# Altium integrated library TI_Logic_Little_Logic.IntLib: 1164 symbols (part 2 of 35)
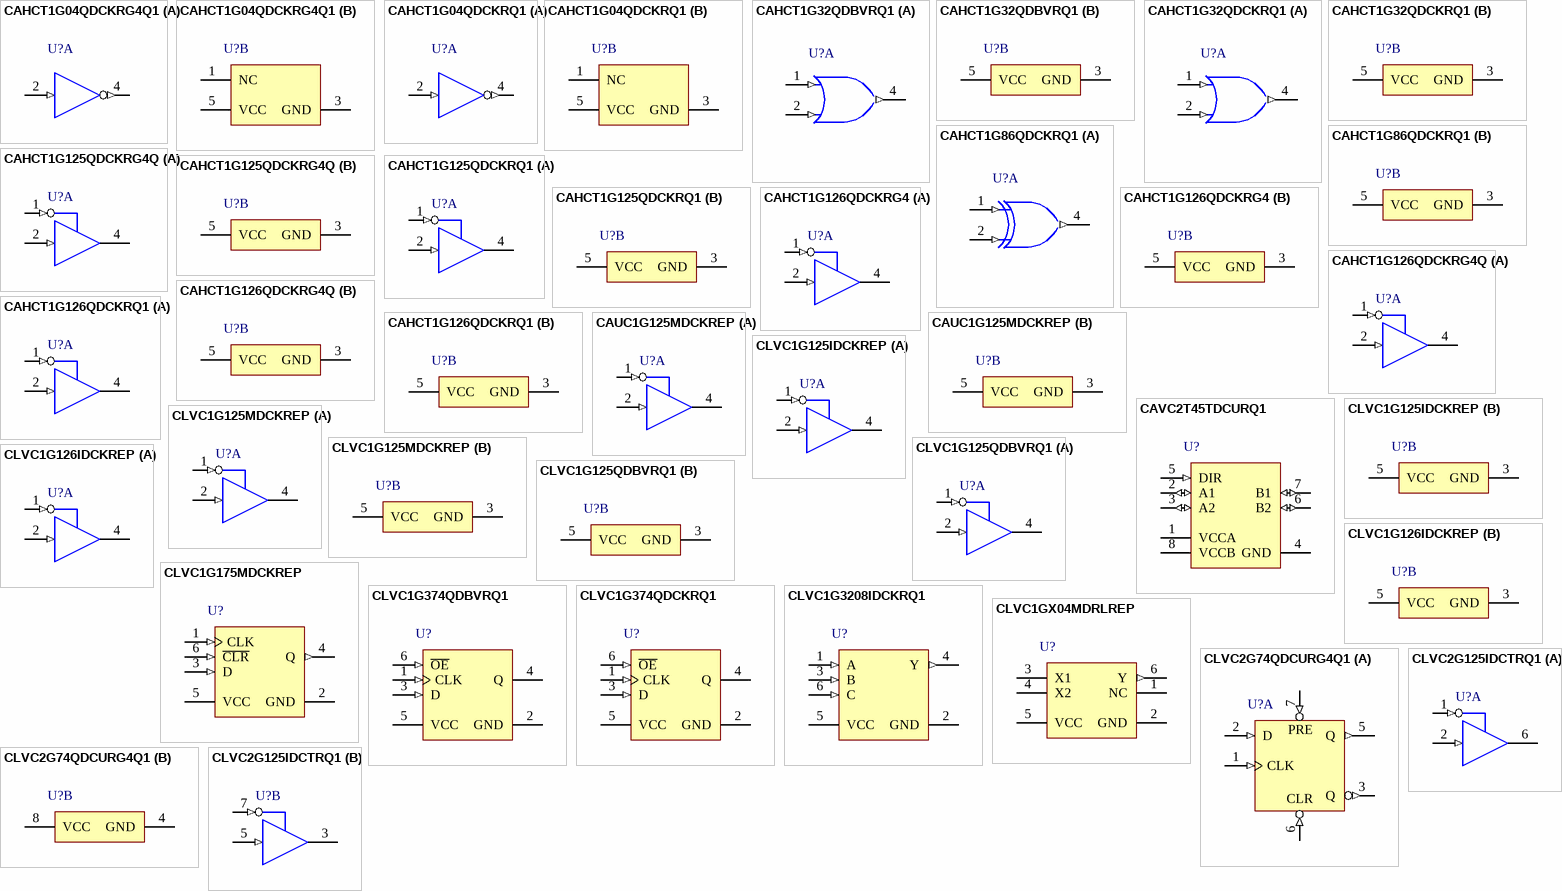
[diagram p61: symbols CAHCT1G04QDCKRG4Q1 to CLVC2G125IDCTRQ1]

## CLVC1G125IDCKREP
designator U?
Enhanced Product Single Bus Buffer Gate With 3-State Outputs, DCK0005A, LARGE T&R; Generic Part Number: SN74LVC1G125-EP; Manufacturer: Texas Instruments; PartNumber: CLVC1G125IDCKREP; VCC(Min)(V): 1.65; VCC(Max)(V): 5.5; Output Type: CMOS; ICC @ Nom Voltage(Max)(mA): 0.01; Input Type: CMOS/TTL; Bits(#): 1; F @ Nom Voltage(Max)(Mhz): 150; Rating: HiRel Enhanced Product; Technology Family: LVC; Voltage(Nom)(V): 1.8,2.5,3.3,5; Schmitt Trigger: No; Output Drive (IOL/IOH)(Max)(mA): 32/-32; tpd @ Nom Voltage(Max)(ns): 9,5.5,4.5,4; Logic: True; Sub-Family: Non-Inverting Buffer/Driver; 3-State Output: Yes; DatasheetVersion: SCES455B; PackageReference: DCK0005A; Supplier 1: Mouser; Supplier Part Number 1: 595-CLVC1G125IDCKREP; Supplier 2: Digi-Key; Supplier Part Number 2: 296-19721-2-ND; Supplier 3: Digi-Key; Supplier Part Number 3: 296-19721-1-ND; Supplier 4: Digi-Key; Supplier Part Number 4: 296-19721-6-ND; Operating Temperature Range(C): -40 to 85,-55 to 125; ComponentLink1Description: Manufacturer URL; ComponentLink1URL: http://www.ti.com/; ComponentLink2Description: Datasheet; ComponentLink2URL: http://www.ti.com/lit/ds/symlink/sn74lvc1g125-ep.pdf
footprint DCK0005A_N (SOT23, 5-Leads, Body 2.15x1.4mm, Pitch 0.65mm, IPC Medium Density)
footprint DCK0005A_M (SOT23, 5-Leads, Body 2.15x1.4mm, Pitch 0.65mm, IPC Low Density)
footprint DCK0005A_L (SOT23, 5-Leads, Body 2.15x1.4mm, Pitch 0.65mm, IPC High Density)
part A pins: 1 ~{OE} (in), 2 A (in), 4 Y (hiz)
part B pins: 3 GND (power), 5 VCC (power)

## CLVC1G125MDCKREP
designator U?
Enhanced Product Single Bus Buffer Gate With 3-State Outputs, DCK0005A, LARGE T&R; Generic Part Number: SN74LVC1G125-EP; Manufacturer: Texas Instruments; PartNumber: CLVC1G125MDCKREP; VCC(Min)(V): 1.65; VCC(Max)(V): 5.5; Output Type: CMOS; ICC @ Nom Voltage(Max)(mA): 0.01; Input Type: CMOS/TTL; Bits(#): 1; F @ Nom Voltage(Max)(Mhz): 150; Rating: HiRel Enhanced Product; Technology Family: LVC; Voltage(Nom)(V): 1.8,2.5,3.3,5; Schmitt Trigger: No; Output Drive (IOL/IOH)(Max)(mA): 32/-32; tpd @ Nom Voltage(Max)(ns): 9,5.5,4.5,4; Logic: True; Sub-Family: Non-Inverting Buffer/Driver; 3-State Output: Yes; DatasheetVersion: SCES455B; PackageReference: DCK0005A; Supplier 1: Mouser; Supplier Part Number 1: 595-CLVC1G125MDCKREP; Supplier 2: Digi-Key; Supplier Part Number 2: 296-20744-2-ND; Supplier 3: Digi-Key; Supplier Part Number 3: 296-20744-1-ND; Supplier 4: Digi-Key; Supplier Part Number 4: 296-20744-6-ND; Operating Temperature Range(C): -40 to 85,-55 to 125; ComponentLink1Description: Manufacturer URL; ComponentLink1URL: http://www.ti.com/; ComponentLink2Description: Datasheet; ComponentLink2URL: http://www.ti.com/lit/ds/symlink/sn74lvc1g125-ep.pdf
footprint DCK0005A_N (SOT23, 5-Leads, Body 2.15x1.4mm, Pitch 0.65mm, IPC Medium Density)
footprint DCK0005A_M (SOT23, 5-Leads, Body 2.15x1.4mm, Pitch 0.65mm, IPC Low Density)
footprint DCK0005A_L (SOT23, 5-Leads, Body 2.15x1.4mm, Pitch 0.65mm, IPC High Density)
part A pins: 1 ~{OE} (in), 2 A (in), 4 Y (hiz)
part B pins: 3 GND (power), 5 VCC (power)

## CLVC1G125QDBVRQ1
designator U?
Automotive Catalog Single Bus Buffer Gate With 3-State Output, DBV0005A, LARGE T&R; Generic Part Number: SN74LVC1G125-Q1; Manufacturer: Texas Instruments; PartNumber: CLVC1G125QDBVRQ1; VCC(Min)(V): 1.65; VCC(Max)(V): 5.5; Output Type: CMOS; ICC @ Nom Voltage(Max)(mA): 0.01; Input Type: CMOS/TTL; Bits(#): 1; F @ Nom Voltage(Max)(Mhz): 150; Technology Family: LVC; Voltage(Nom)(V): 1.8,2.5,3.3,5; Schmitt Trigger: No; Output Drive (IOL/IOH)(Max)(mA): 32/-32; tpd @ Nom Voltage(Max)(ns): 5.1,4.1; Logic: True; Sub-Family: Non-Inverting Buffer/Driver; 3-State Output: Yes; DatasheetVersion: SGES002C; PackageReference: DBV0005A; Supplier 1: Mouser; Supplier Part Number 1: 595-CLVC1G125QDBVRQ1; Supplier 2: Digi-Key; Supplier Part Number 2: 296-23463-2-ND; Supplier 3: Digi-Key; Supplier Part Number 3: 296-23463-1-ND; Supplier 4: Digi-Key; Supplier Part Number 4: 296-23463-6-ND; Operating Temperature Range(C): -40 to 125; Rating: Automotive; ComponentLink1Description: Manufacturer URL; ComponentLink1URL: http://www.ti.com/; ComponentLink2Description: Datasheet; ComponentLink2URL: http://www.ti.com/lit/ds/symlink/sn74lvc1g125-q1.pdf
footprint DBV0005A_N (SOT23, 5-Leads, Body 3.05x1.75mm, Pitch 0.95mm, IPC Medium Density)
footprint DBV0005A_M (SOT23, 5-Leads, Body 3.05x1.75mm, Pitch 0.95mm, IPC Low Density)
footprint DBV0005A_L (SOT23, 5-Leads, Body 3.05x1.75mm, Pitch 0.95mm, IPC High Density)
part A pins: 1 ~{OE} (in), 2 A (in), 4 Y (hiz)
part B pins: 3 GND (power), 5 VCC (power)

## CLVC1G126IDCKREP
designator U?
Enhanced Product Single Bus Buffer Gate With 3-State Outputs, DCK0005A, LARGE T&R; Generic Part Number: SN74LVC1G126-EP; Manufacturer: Texas Instruments; PartNumber: CLVC1G126IDCKREP; VCC(Min)(V): 1.65; VCC(Max)(V): 5.5; Output Type: CMOS; ICC @ Nom Voltage(Max)(mA): 0.01; Input Type: CMOS/TTL; Bits(#): 1; F @ Nom Voltage(Max)(Mhz): 150; Rating: HiRel Enhanced Product; Technology Family: LVC; Voltage(Nom)(V): 1.8,2.5,3.3,5; Schmitt Trigger: No; Output Drive (IOL/IOH)(Max)(mA): 32/-32; tpd @ Nom Voltage(Max)(ns): 8,5.5,4.5,4; Logic: True; Sub-Family: Non-Inverting Buffer/Driver; 3-State Output: Yes; DatasheetVersion: SCES527A; PackageReference: DCK0005A; Supplier 1: Mouser; Supplier Part Number 1: 595-CLVC1G126IDCKREP; Supplier 2: Digi-Key; Supplier Part Number 2: 296-22110-2-ND; Supplier 3: Digi-Key; Supplier Part Number 3: 296-22110-1-ND; Supplier 4: Digi-Key; Supplier Part Number 4: 296-22110-6-ND; Operating Temperature Range(C): -40 to 85; ComponentLink1Description: Manufacturer URL; ComponentLink1URL: http://www.ti.com/; ComponentLink2Description: Datasheet; ComponentLink2URL: http://www.ti.com/lit/ds/symlink/sn74lvc1g126-ep.pdf
footprint DCK0005A_N (SOT23, 5-Leads, Body 2.15x1.4mm, Pitch 0.65mm, IPC Medium Density)
footprint DCK0005A_M (SOT23, 5-Leads, Body 2.15x1.4mm, Pitch 0.65mm, IPC Low Density)
footprint DCK0005A_L (SOT23, 5-Leads, Body 2.15x1.4mm, Pitch 0.65mm, IPC High Density)
part A pins: 1 OE (in), 2 A (in), 4 Y (hiz)
part B pins: 3 GND (power), 5 VCC (power)

## CLVC1G175MDCKREP
designator U?
Enhanced Product Single D-Type Flip-Flop With Asynchronous Clear, DCK0006A, LARGE T&R; Generic Part Number: SN74LVC1G175-EP; Manufacturer: Texas Instruments; PartNumber: CLVC1G175MDCKREP; VCC(Min)(V): 1.65; VCC(Max)(V): 5.5; Output Type: CMOS; ICC @ Nom Voltage(Max)(mA): 0.01; Input Type: CMOS/TTL; Bits(#): 1; F @ Nom Voltage(Max)(Mhz): 150; Rating: HiRel Enhanced Product; Technology Family: LVC; Voltage(Nom)(V): 1.8,2.5,3.3,5; Schmitt Trigger: No; Output Drive (IOL/IOH)(Max)(mA): 32/-32; tpd @ Nom Voltage(Max)(ns): 16,9,8,5; Logic: True; DatasheetVersion: SGLS366A; PackageReference: DCK0006A; Supplier 1: Mouser; Supplier Part Number 1: 595-CLVC1G175MDCKREP; Supplier 2: Digi-Key; Supplier Part Number 2: 296-22111-2-ND; Supplier 3: Digi-Key; Supplier Part Number 3: 296-22111-1-ND; Supplier 4: Digi-Key; Supplier Part Number 4: 296-22111-6-ND; Operating Temperature Range(C): -55 to 125; 3-State Output: No; Sub-Family: D-Type Flip-Flop; ComponentLink1Description: Manufacturer URL; ComponentLink1URL: http://www.ti.com/; ComponentLink2Description: Datasheet; ComponentLink2URL: http://www.ti.com/lit/ds/symlink/sn74lvc1g175-ep.pdf
footprint DCK0006A_N (SOT23, 6-Leads, Body 2.15x1.4mm, Pitch 0.65mm, IPC Medium Density)
footprint DCK0006A_M (SOT23, 6-Leads, Body 2.15x1.4mm, Pitch 0.65mm, IPC Low Density)
footprint DCK0006A_L (SOT23, 6-Leads, Body 2.15x1.4mm, Pitch 0.65mm, IPC High Density)
pins: 1 CLK (in), 2 GND (power), 3 D (in), 4 Q (out), 5 VCC (power), 6 ~{CLR} (in)

## CLVC1G374QDBVRQ1
designator U?
Automotive Catalog Single D-Type Flip-Flop with 3-State Output, DBV0006A, LARGE T&R; Generic Part Number: SN74LVC1G374-Q1; Manufacturer: Texas Instruments; PartNumber: CLVC1G374QDBVRQ1; VCC(Min)(V): 1.65; VCC(Max)(V): 5.5; Output Type: CMOS; ICC @ Nom Voltage(Max)(mA): 0.01; Input Type: CMOS/TTL; Bits(#): 1; F @ Nom Voltage(Max)(Mhz): 150; Technology Family: LVC; Voltage(Nom)(V): 1.8,2.5,3.3,5; Schmitt Trigger: No; Output Drive (IOL/IOH)(Max)(mA): 32/-32; 3-State Output: Yes; tpd @ Nom Voltage(Max)(ns): 18.3,10.2,7,5; Logic: True; DatasheetVersion: SCES607B; PackageReference: DBV0006A; Supplier 1: Mouser; Supplier Part Number 1: 595-CLVC1G374QDBVRQ1; Supplier 2: Digi-Key; Supplier Part Number 2: 296-29570-2-ND; Supplier 3: Digi-Key; Supplier Part Number 3: 296-29570-1-ND; Supplier 4: Digi-Key; Supplier Part Number 4: 296-29570-6-ND; Operating Temperature Range(C): -40 to 125; Rating: Automotive; Sub-Family: D-Type Flip-Flop; ComponentLink1Description: Manufacturer URL; ComponentLink1URL: http://www.ti.com/; ComponentLink2Description: Datasheet; ComponentLink2URL: http://www.ti.com/lit/ds/symlink/sn74lvc1g374-q1.pdf
footprint DBV0006A_N (SOT23, 6-Leads, Body 3.05x1.75mm, Pitch 0.95mm, IPC Medium Density)
footprint DBV0006A_M (SOT23, 6-Leads, Body 3.05x1.75mm, Pitch 0.95mm, IPC Low Density)
footprint DBV0006A_L (SOT23, 6-Leads, Body 3.05x1.75mm, Pitch 0.95mm, IPC High Density)
pins: 1 CLK (in), 2 GND (power), 3 D (in), 4 Q (hiz), 5 VCC (power), 6 ~{OE} (in)

## CLVC1G374QDCKRQ1
designator U?
Automotive Catalog Single D-Type Flip-Flop with 3-State Output, DCK0006A, LARGE T&R; Generic Part Number: SN74LVC1G374-Q1; Manufacturer: Texas Instruments; PartNumber: CLVC1G374QDCKRQ1; VCC(Min)(V): 1.65; VCC(Max)(V): 5.5; Output Type: CMOS; ICC @ Nom Voltage(Max)(mA): 0.01; Input Type: CMOS/TTL; Bits(#): 1; F @ Nom Voltage(Max)(Mhz): 150; Technology Family: LVC; Voltage(Nom)(V): 1.8,2.5,3.3,5; Schmitt Trigger: No; Output Drive (IOL/IOH)(Max)(mA): 32/-32; 3-State Output: Yes; tpd @ Nom Voltage(Max)(ns): 18.3,10.2,7,5; Logic: True; DatasheetVersion: SCES607B; PackageReference: DCK0006A; Supplier 1: Mouser; Supplier Part Number 1: 595-CLVC1G374QDCKRQ1; Supplier 2: Digi-Key; Supplier Part Number 2: 296-36925-2-ND; Supplier 3: Digi-Key; Supplier Part Number 3: 296-36925-1-ND; Supplier 4: Digi-Key; Supplier Part Number 4: 296-36925-6-ND; Operating Temperature Range(C): -40 to 125; Rating: Automotive; Sub-Family: D-Type Flip-Flop; ComponentLink1Description: Manufacturer URL; ComponentLink1URL: http://www.ti.com/; ComponentLink2Description: Datasheet; ComponentLink2URL: http://www.ti.com/lit/ds/symlink/sn74lvc1g374-q1.pdf
footprint DCK0006A_N (SOT23, 6-Leads, Body 2.15x1.4mm, Pitch 0.65mm, IPC Medium Density)
footprint DCK0006A_M (SOT23, 6-Leads, Body 2.15x1.4mm, Pitch 0.65mm, IPC Low Density)
footprint DCK0006A_L (SOT23, 6-Leads, Body 2.15x1.4mm, Pitch 0.65mm, IPC High Density)
pins: 1 CLK (in), 2 GND (power), 3 D (in), 4 Q (hiz), 5 VCC (power), 6 ~{OE} (in)

## CLVC1G3208IDCKRQ1
designator U?
Automotive Catalog Single 3-Input Positive OR-AND Gate, DCK0006A, LARGE T&R; Generic Part Number: SN74LVC1G3208-Q1; Manufacturer: Texas Instruments; PartNumber: CLVC1G3208IDCKRQ1; VCC(Min)(V): 1.65; VCC(Max)(V): 5.5; Output Type: CMOS; Logic: True; ICC @ Nom Voltage(Max)(mA): 0.01; Input Type: CMOS/TTL; Bits(#): 1; F @ Nom Voltage(Max)(Mhz): 150; Gate Type: Configurable; Technology Family: LVC; Voltage(Nom)(V): 1.8,2.5,3.3,5; Schmitt Trigger: No; Output Drive (IOL/IOH)(Max)(mA): 32/-32; Sub-Family: Configurable Logic; tpd @ Nom Voltage(Max)(ns): 17.5,7.6,5.9,4.2; DatasheetVersion: SCES822; PackageReference: DCK0006A; Supplier 1: Mouser; Supplier Part Number 1: 595-LVC1G3208IDCKRQ1; Supplier 2: Digi-Key; Supplier Part Number 2: 296-28150-2-ND; Supplier 3: Digi-Key; Supplier Part Number 3: 296-28150-1-ND; Supplier 4: Digi-Key; Supplier Part Number 4: 296-28150-6-ND; Operating Temperature Range(C): -40 to 85; Rating: Automotive; 3-State Output: No; ComponentLink1Description: Manufacturer URL; ComponentLink1URL: http://www.ti.com/; ComponentLink2Description: Datasheet; ComponentLink2URL: http://www.ti.com/lit/ds/symlink/sn74lvc1g3208-q1.pdf
footprint DCK0006A_N (SOT23, 6-Leads, Body 2.15x1.4mm, Pitch 0.65mm, IPC Medium Density)
footprint DCK0006A_M (SOT23, 6-Leads, Body 2.15x1.4mm, Pitch 0.65mm, IPC Low Density)
footprint DCK0006A_L (SOT23, 6-Leads, Body 2.15x1.4mm, Pitch 0.65mm, IPC High Density)
pins: 1 A (in), 2 GND (power), 3 B (in), 4 Y (out), 5 VCC (power), 6 C (in)

## CLVC1GX04MDRLREP
designator U?
Enhanced Product Crystal Oscillator Driver, DRL0006A, LARGE T&R; Generic Part Number: SN74LVC1GX04-EP; Manufacturer: Texas Instruments; PartNumber: CLVC1GX04MDRLREP; VCC(Min)(V): 1.65; VCC(Max)(V): 5.5; Output Type: CMOS; ICC @ Nom Voltage(Max)(mA): 0.01; Input Type: CMOS/TTL; Bits(#): 1; F @ Nom Voltage(Max)(Mhz): 150; Rating: HiRel Enhanced Product; Technology Family: LVC; Voltage(Nom)(V): 1.8,2.5,3.3,5; Schmitt Trigger: No; Output Drive (IOL/IOH)(Max)(mA): 32/-32; tpd @ Nom Voltage(Max)(ns): 3.7,3.2; Logic: True; Sub-Family: Inverting Buffer/Driver; DatasheetVersion: SGDS029; PackageReference: DRL0006A; Supplier 1: Mouser; Supplier Part Number 1: 595-CLVC1GX04MDRLREP; Supplier 2: Digi-Key; Supplier Part Number 2: 296-23464-2-ND; Supplier 3: Digi-Key; Supplier Part Number 3: 296-23464-1-ND; Supplier 4: Digi-Key; Supplier Part Number 4: 296-23464-6-ND; Operating Temperature Range(C): -55 to 125; 3-State Output: No; ComponentLink1Description: Manufacturer URL; ComponentLink1URL: http://www.ti.com/; ComponentLink2Description: Datasheet; ComponentLink2URL: http://www.ti.com/lit/ds/symlink/sn74lvc1gx04-ep.pdf
footprint DRL0006A_N (SOT23, 6-Leads, Body 1.7x1.3mm, Pitch 0.5mm, IPC Medium Density)
footprint DRL0006A_M (SOT23, 6-Leads, Body 1.7x1.3mm, Pitch 0.5mm, IPC Low Density)
footprint DRL0006A_L (SOT23, 6-Leads, Body 1.7x1.3mm, Pitch 0.5mm, IPC High Density)
pins: 1 NC, 2 GND (power), 3 X1, 4 X2, 5 VCC (power), 6 Y (out)

## CLVC2G74QDCURG4Q1
designator U?
Automotive Catalog Single Positive-Edge-Triggered D-Type Flip-Flop with Clear and Preset, DCU0008A, LARGE T&R; Generic Part Number: SN74LVC2G74-Q1; Manufacturer: Texas Instruments; PartNumber: CLVC2G74QDCURG4Q1; VCC(Min)(V): 1.65; VCC(Max)(V): 5.5; Output Type: CMOS; ICC @ Nom Voltage(Max)(mA): 0.01; Input Type: CMOS/TTL; Bits(#): 1; F @ Nom Voltage(Max)(Mhz): 150; Technology Family: LVC; Voltage(Nom)(V): 1.8,2.5,3.3,5; Schmitt Trigger: No; Output Drive (IOL/IOH)(Max)(mA): 32/-32; tpd @ Nom Voltage(Max)(ns): 14.4,8.1,6.9,5.1; Logic: True; DatasheetVersion: SCES563C; PackageReference: DCU0008A; Supplier 1: Mouser; Supplier Part Number 1: 595-LVC2G74QDCURG4Q1; Supplier 2: Digi-Key; Supplier Part Number 2: CLVC2G74QDCURG4Q1-ND; Operating Temperature Range(C): -40 to 125; Rating: Automotive; 3-State Output: No; Sub-Family: D-Type Flip-Flop; ComponentLink1Description: Manufacturer URL; ComponentLink1URL: http://www.ti.com/; ComponentLink2Description: Datasheet; ComponentLink2URL: http://www.ti.com/lit/ds/symlink/sn74lvc2g74-q1.pdf
footprint DCU0008A_N (SOP, 8-Leads, Body 2.4x2.1mm, Pitch 0.5mm, IPC Medium Density)
footprint DCU0008A_M (SOP, 8-Leads, Body 2.4x2.1mm, Pitch 0.5mm, IPC Low Density)
footprint DCU0008A_L (SOP, 8-Leads, Body 2.4x2.1mm, Pitch 0.5mm, IPC High Density)
part A pins: 1 CLK (in) "Clock input", 2 D (in) "Input", 3 Q (out) "Inverted output", 5 Q (out) "Output", 6 ~{CLR} (in) "Clear input - Pull low to set Q output low", 7 ~{PRE} (in) "Preset input - Pull low to set Q output high"
part B pins: 4 GND (power) "Ground", 8 VCC (power) "Supply"
part A text: PRE; CLR

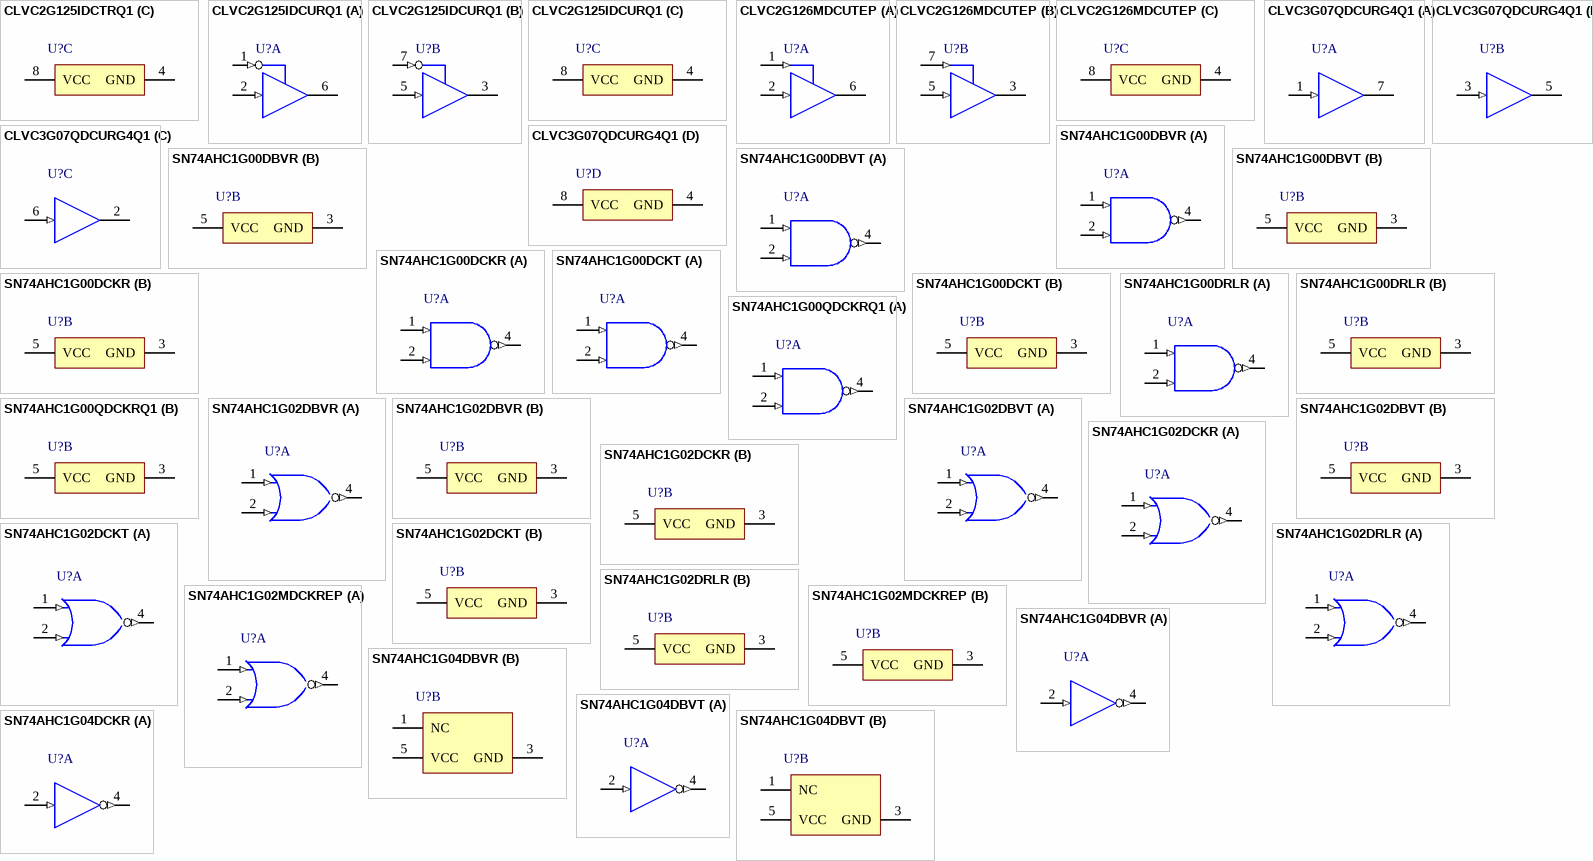
[diagram p2: symbols CLVC2G125IDCTRQ1 to SN74AHC1G04DCKR]

## CLVC2G125IDCTRQ1
designator U?
Automotive Catalog Dual Bus Buffer Gate with 3-State Outputs, DCT0008A, LARGE T&R; Generic Part Number: SN74LVC2G125-Q1; Manufacturer: Texas Instruments; PartNumber: CLVC2G125IDCTRQ1; VCC(Min)(V): 1.65; VCC(Max)(V): 5.5; Output Type: CMOS; ICC @ Nom Voltage(Max)(mA): 0.01; Input Type: CMOS/TTL; Bits(#): 2; F @ Nom Voltage(Max)(Mhz): 150; Technology Family: LVC; Voltage(Nom)(V): 1.8,2.5,3.3,5; Schmitt Trigger: No; Output Drive (IOL/IOH)(Max)(mA): 32/-32; tpd @ Nom Voltage(Max)(ns): 9.1,4.8,4.3,3.7; Logic: True; Sub-Family: Non-Inverting Buffer/Driver; 3-State Output: Yes; DatasheetVersion: SCES559C; PackageReference: DCT0008A; Supplier 1: Mouser; Supplier Part Number 1: 595-CLVC2G125IDCTRQ1; Supplier 2: Digi-Key; Supplier Part Number 2: 296-30598-2-ND; Supplier 3: Digi-Key; Supplier Part Number 3: 296-30598-1-ND; Supplier 4: Digi-Key; Supplier Part Number 4: 296-30598-6-ND; Operating Temperature Range(C): -40 to 85; Rating: Automotive; ComponentLink1Description: Manufacturer URL; ComponentLink1URL: http://www.ti.com/; ComponentLink2Description: Datasheet; ComponentLink2URL: http://www.ti.com/lit/ds/symlink/sn74lvc2g125-q1.pdf
footprint DCT0008A_N (SOP, 8-Leads, Body 2.9x3.2mm, Pitch 0.65mm, IPC Medium Density)
footprint DCT0008A_M (SOP, 8-Leads, Body 2.9x3.2mm, Pitch 0.65mm, IPC Low Density)
footprint DCT0008A_L (SOP, 8-Leads, Body 2.9x3.2mm, Pitch 0.65mm, IPC High Density)
part A pins: 1 1~{OE} (in) "Output Enable for buffer 1", 2 1A (in) "Input", 6 1Y (hiz) "Output"
part B pins: 3 2Y (hiz) "Output", 5 2A (in) "Input", 7 2~{OE} (in) "Output Enable for buffer 2"
part C pins: 4 GND (power) "Ground Pin", 8 VCC (power) "Power Pin"

## CLVC2G125IDCURQ1
designator U?
Automotive Catalog Dual Bus Buffer Gate with 3-State Outputs, DCU0008A, LARGE T&R; Generic Part Number: SN74LVC2G125-Q1; Manufacturer: Texas Instruments; PartNumber: CLVC2G125IDCURQ1; VCC(Min)(V): 1.65; VCC(Max)(V): 5.5; Output Type: CMOS; ICC @ Nom Voltage(Max)(mA): 0.01; Input Type: CMOS/TTL; Bits(#): 2; F @ Nom Voltage(Max)(Mhz): 150; Technology Family: LVC; Voltage(Nom)(V): 1.8,2.5,3.3,5; Schmitt Trigger: No; Output Drive (IOL/IOH)(Max)(mA): 32/-32; tpd @ Nom Voltage(Max)(ns): 9.1,4.8,4.3,3.7; Logic: True; Sub-Family: Non-Inverting Buffer/Driver; 3-State Output: Yes; DatasheetVersion: SCES559C; PackageReference: DCU0008A; Supplier 1: Mouser; Supplier Part Number 1: 595-CLVC2G125IDCURQ1; Supplier 2: Digi-Key; Supplier Part Number 2: 296-28411-2-ND; Supplier 3: Digi-Key; Supplier Part Number 3: 296-28411-1-ND; Supplier 4: Digi-Key; Supplier Part Number 4: 296-28411-6-ND; Operating Temperature Range(C): -40 to 85; Rating: Automotive; ComponentLink1Description: Manufacturer URL; ComponentLink1URL: http://www.ti.com/; ComponentLink2Description: Datasheet; ComponentLink2URL: http://www.ti.com/lit/ds/symlink/sn74lvc2g125-q1.pdf
footprint DCU0008A_N (SOP, 8-Leads, Body 2.4x2.1mm, Pitch 0.5mm, IPC Medium Density)
footprint DCU0008A_M (SOP, 8-Leads, Body 2.4x2.1mm, Pitch 0.5mm, IPC Low Density)
footprint DCU0008A_L (SOP, 8-Leads, Body 2.4x2.1mm, Pitch 0.5mm, IPC High Density)
part A pins: 1 1~{OE} (in) "Output Enable for buffer 1", 2 1A (in) "Input", 6 1Y (hiz) "Output"
part B pins: 3 2Y (hiz) "Output", 5 2A (in) "Input", 7 2~{OE} (in) "Output Enable for buffer 2"
part C pins: 4 GND (power) "Ground Pin", 8 VCC (power) "Power Pin"

## CLVC2G126MDCUTEP
designator U?
Dual Bus Buffer Gate With 3-State Outputs, DCU0008A, SMALL T&R; Generic Part Number: SN74LVC2G126-EP; Manufacturer: Texas Instruments; PartNumber: CLVC2G126MDCUTEP; VCC(Min)(V): 1.65; VCC(Max)(V): 5.5; Output Type: CMOS; Logic: True; ICC @ Nom Voltage(Max)(mA): 0.01; Input Type: CMOS/TTL; Bits(#): 2; F @ Nom Voltage(Max)(Mhz): 150; Rating: HiRel Enhanced Product; Technology Family: LVC; Voltage(Nom)(V): 1.8,2.5,3.3,5; Schmitt Trigger: No; Output Drive (IOL/IOH)(Max)(mA): 32/-32; Sub-Family: Non-Inverting Buffer/Driver; 3-State Output: Yes; tpd @ Nom Voltage(Max)(ns): 15.2,8.6,6.8,5.5; DatasheetVersion: SCES856; PackageReference: DCU0008A; Supplier 1: Mouser; Supplier Part Number 1: 595-CLVC2G126MDCUTEP; Supplier 2: Digi-Key; Supplier Part Number 2: 296-37171-2-ND; Supplier 3: Digi-Key; Supplier Part Number 3: 296-37171-1-ND; Supplier 4: Digi-Key; Supplier Part Number 4: 296-37171-6-ND; Operating Temperature Range(C): -55 to 125; ComponentLink1Description: Manufacturer URL; ComponentLink1URL: http://www.ti.com/; ComponentLink2Description: Datasheet; ComponentLink2URL: http://www.ti.com/lit/ds/symlink/sn74lvc2g126-ep.pdf
footprint DCU0008A_N (SOP, 8-Leads, Body 2.4x2.1mm, Pitch 0.5mm, IPC Medium Density)
footprint DCU0008A_M (SOP, 8-Leads, Body 2.4x2.1mm, Pitch 0.5mm, IPC Low Density)
footprint DCU0008A_L (SOP, 8-Leads, Body 2.4x2.1mm, Pitch 0.5mm, IPC High Density)
part A pins: 1 1OE (in), 2 1A (in), 6 1Y (hiz)
part B pins: 3 2Y (hiz), 5 2A (in), 7 2OE (in)
part C pins: 4 GND (power) "Ground Pin", 8 VCC (power) "Power Pin"

## CLVC3G07QDCURG4Q1
designator U?
Automotive Catalog Triple Buffer/Driver With Open-Drain Output, DCU0008A, LARGE T&R; Generic Part Number: SN74LVC3G07-Q1; Manufacturer: Texas Instruments; PartNumber: CLVC3G07QDCURG4Q1; VCC(Min)(V): 1.65; VCC(Max)(V): 5.5; Output Type: CMOS; ICC @ Nom Voltage(Max)(mA): 0.01; Input Type: CMOS/TTL; Bits(#): 3; F @ Nom Voltage(Max)(Mhz): 150; Technology Family: LVC; Voltage(Nom)(V): 1.8,2.5,3.3,5; Schmitt Trigger: No; Output Drive (IOL/IOH)(Max)(mA): 32/-32; tpd @ Nom Voltage(Max)(ns): 7.8,4.3,3.7,2.9; Logic: True; Sub-Family: Non-Inverting Buffer/Driver; DatasheetVersion: SCES616B; PackageReference: DCU0008A; Supplier 1: Mouser; Supplier Part Number 1: 595-CVC3G07QDCURG4Q1; Supplier 2: Digi-Key; Supplier Part Number 2: CLVC3G07QDCURG4Q1-ND; Operating Temperature Range(C): -40 to 125; Rating: Automotive; 3-State Output: No; ComponentLink1Description: Manufacturer URL; ComponentLink1URL: http://www.ti.com/; ComponentLink2Description: Datasheet; ComponentLink2URL: http://www.ti.com/lit/ds/symlink/sn74lvc3g07-q1.pdf
footprint DCU0008A_N (SOP, 8-Leads, Body 2.4x2.1mm, Pitch 0.5mm, IPC Medium Density)
footprint DCU0008A_M (SOP, 8-Leads, Body 2.4x2.1mm, Pitch 0.5mm, IPC Low Density)
footprint DCU0008A_L (SOP, 8-Leads, Body 2.4x2.1mm, Pitch 0.5mm, IPC High Density)
part A pins: 1 1A (in), 7 1Y (oc)
part B pins: 3 2A (in), 5 2Y (oc)
part C pins: 2 3Y (oc), 6 3A (in)
part D pins: 4 GND (power), 8 VCC (power)

## SN74AHC1G00DBVR
designator U?
Single 2-Input Positive-NAND Gate, DBV0005A, LARGE T&R; Generic Part Number: SN74AHC1G00; Manufacturer: Texas Instruments; PartNumber: SN74AHC1G00DBVR; VCC(Min)(V): 2; VCC(Max)(V): 5.5; Output Type: CMOS; ICC @ Nom Voltage(Max)(mA): 0.01; Bits(#): 1; F @ Nom Voltage(Max)(Mhz): 75; Rating: Catalog; Technology Family: AHC; Voltage(Nom)(V): 5; Schmitt Trigger: No; Output Drive (IOL/IOH)(Max)(mA): 8/-8; tpd @ Nom Voltage(Max)(ns): 6.5; Logic: True; Gate Type: NAND; DatasheetVersion: SCLS313N; PackageReference: DBV0005A; Supplier 1: Mouser; Supplier Part Number 1: 595-SN74AHC1G00DBVR; Supplier 2: Digi-Key; Supplier Part Number 2: 296-1087-2-ND; Supplier 3: Digi-Key; Supplier Part Number 3: 296-1087-1-ND; Supplier 4: Digi-Key; Supplier Part Number 4: 296-1087-6-ND; Input Type: CMOS; Operating Temperature Range(C): -40 to 125; Sub-Family: NAND Gate; 3-State Output: No; ComponentLink1Description: Manufacturer URL; ComponentLink1URL: http://www.ti.com/; ComponentLink2Description: Datasheet; ComponentLink2URL: http://www.ti.com/lit/ds/symlink/sn74ahc1g00.pdf
footprint DBV0005A_N (SOT23, 5-Leads, Body 3.05x1.75mm, Pitch 0.95mm, IPC Medium Density)
footprint DBV0005A_M (SOT23, 5-Leads, Body 3.05x1.75mm, Pitch 0.95mm, IPC Low Density)
footprint DBV0005A_L (SOT23, 5-Leads, Body 3.05x1.75mm, Pitch 0.95mm, IPC High Density)
part A pins: 1 A (in) "Input A", 2 B (in) "Input B", 4 Y (out) "Output Y"
part B pins: 3 GND (power) "Ground Pin", 5 VCC (power) "Power Pin"

## SN74AHC1G00DBVT
designator U?
Single 2-Input Positive-NAND Gate, DBV0005A, SMALL T&R; Generic Part Number: SN74AHC1G00; Manufacturer: Texas Instruments; PartNumber: SN74AHC1G00DBVT; VCC(Min)(V): 2; VCC(Max)(V): 5.5; Output Type: CMOS; ICC @ Nom Voltage(Max)(mA): 0.01; Bits(#): 1; F @ Nom Voltage(Max)(Mhz): 75; Rating: Catalog; Technology Family: AHC; Voltage(Nom)(V): 5; Schmitt Trigger: No; Output Drive (IOL/IOH)(Max)(mA): 8/-8; tpd @ Nom Voltage(Max)(ns): 6.5; Logic: True; Gate Type: NAND; DatasheetVersion: SCLS313N; PackageReference: DBV0005A; Supplier 1: Mouser; Supplier Part Number 1: 595-SN74AHC1G00DBVT; Supplier 2: Digi-Key; Supplier Part Number 2: 296-32225-2-ND; Supplier 3: Digi-Key; Supplier Part Number 3: 296-32225-1-ND; Supplier 4: Digi-Key; Supplier Part Number 4: 296-32225-6-ND; Input Type: CMOS; Operating Temperature Range(C): -40 to 125; Sub-Family: NAND Gate; 3-State Output: No; ComponentLink1Description: Manufacturer URL; ComponentLink1URL: http://www.ti.com/; ComponentLink2Description: Datasheet; ComponentLink2URL: http://www.ti.com/lit/ds/symlink/sn74ahc1g00.pdf
footprint DBV0005A_N (SOT23, 5-Leads, Body 3.05x1.75mm, Pitch 0.95mm, IPC Medium Density)
footprint DBV0005A_M (SOT23, 5-Leads, Body 3.05x1.75mm, Pitch 0.95mm, IPC Low Density)
footprint DBV0005A_L (SOT23, 5-Leads, Body 3.05x1.75mm, Pitch 0.95mm, IPC High Density)
part A pins: 1 A (in) "Input A", 2 B (in) "Input B", 4 Y (out) "Output Y"
part B pins: 3 GND (power) "Ground Pin", 5 VCC (power) "Power Pin"

## SN74AHC1G00DCKR
designator U?
Single 2-Input Positive-NAND Gate, DCK0005A, LARGE T&R; Generic Part Number: SN74AHC1G00; Manufacturer: Texas Instruments; PartNumber: SN74AHC1G00DCKR; VCC(Min)(V): 2; VCC(Max)(V): 5.5; Output Type: CMOS; ICC @ Nom Voltage(Max)(mA): 0.01; Bits(#): 1; F @ Nom Voltage(Max)(Mhz): 75; Rating: Catalog; Technology Family: AHC; Voltage(Nom)(V): 5; Schmitt Trigger: No; Output Drive (IOL/IOH)(Max)(mA): 8/-8; tpd @ Nom Voltage(Max)(ns): 6.5; Logic: True; Gate Type: NAND; DatasheetVersion: SCLS313N; PackageReference: DCK0005A; Supplier 1: Mouser; Supplier Part Number 1: 595-SN74AHC1G00DCKR; Supplier 2: Digi-Key; Supplier Part Number 2: 296-8741-2-ND; Supplier 3: Digi-Key; Supplier Part Number 3: 296-8741-1-ND; Supplier 4: Digi-Key; Supplier Part Number 4: 296-8741-6-ND; Input Type: CMOS; Operating Temperature Range(C): -40 to 125; Sub-Family: NAND Gate; 3-State Output: No; ComponentLink1Description: Manufacturer URL; ComponentLink1URL: http://www.ti.com/; ComponentLink2Description: Datasheet; ComponentLink2URL: http://www.ti.com/lit/ds/symlink/sn74ahc1g00.pdf
footprint DCK0005A_N (SOT23, 5-Leads, Body 2.15x1.4mm, Pitch 0.65mm, IPC Medium Density)
footprint DCK0005A_M (SOT23, 5-Leads, Body 2.15x1.4mm, Pitch 0.65mm, IPC Low Density)
footprint DCK0005A_L (SOT23, 5-Leads, Body 2.15x1.4mm, Pitch 0.65mm, IPC High Density)
part A pins: 1 A (in) "Input A", 2 B (in) "Input B", 4 Y (out) "Output Y"
part B pins: 3 GND (power) "Ground Pin", 5 VCC (power) "Power Pin"

## SN74AHC1G00DCKT
designator U?
Single 2-Input Positive-NAND Gate, DCK0005A, SMALL T&R; Generic Part Number: SN74AHC1G00; Manufacturer: Texas Instruments; PartNumber: SN74AHC1G00DCKT; VCC(Min)(V): 2; VCC(Max)(V): 5.5; Output Type: CMOS; ICC @ Nom Voltage(Max)(mA): 0.01; Bits(#): 1; F @ Nom Voltage(Max)(Mhz): 75; Rating: Catalog; Technology Family: AHC; Voltage(Nom)(V): 5; Schmitt Trigger: No; Output Drive (IOL/IOH)(Max)(mA): 8/-8; tpd @ Nom Voltage(Max)(ns): 6.5; Logic: True; Gate Type: NAND; DatasheetVersion: SCLS313N; PackageReference: DCK0005A; Supplier 1: Mouser; Supplier Part Number 1: 595-SN74AHC1G00DCKT; Supplier 2: Digi-Key; Supplier Part Number 2: 296-32226-2-ND; Supplier 3: Digi-Key; Supplier Part Number 3: 296-32226-1-ND; Supplier 4: Digi-Key; Supplier Part Number 4: 296-32226-6-ND; Input Type: CMOS; Operating Temperature Range(C): -40 to 125; Sub-Family: NAND Gate; 3-State Output: No; ComponentLink1Description: Manufacturer URL; ComponentLink1URL: http://www.ti.com/; ComponentLink2Description: Datasheet; ComponentLink2URL: http://www.ti.com/lit/ds/symlink/sn74ahc1g00.pdf
footprint DCK0005A_N (SOT23, 5-Leads, Body 2.15x1.4mm, Pitch 0.65mm, IPC Medium Density)
footprint DCK0005A_M (SOT23, 5-Leads, Body 2.15x1.4mm, Pitch 0.65mm, IPC Low Density)
footprint DCK0005A_L (SOT23, 5-Leads, Body 2.15x1.4mm, Pitch 0.65mm, IPC High Density)
part A pins: 1 A (in) "Input A", 2 B (in) "Input B", 4 Y (out) "Output Y"
part B pins: 3 GND (power) "Ground Pin", 5 VCC (power) "Power Pin"

## SN74AHC1G00DRLR
designator U?
Single 2-Input Positive-NAND Gate, DRL0005A, LARGE T&R; Generic Part Number: SN74AHC1G00; Manufacturer: Texas Instruments; PartNumber: SN74AHC1G00DRLR; VCC(Min)(V): 2; VCC(Max)(V): 5.5; Output Type: CMOS; ICC @ Nom Voltage(Max)(mA): 0.01; Bits(#): 1; F @ Nom Voltage(Max)(Mhz): 75; Rating: Catalog; Technology Family: AHC; Voltage(Nom)(V): 5; Schmitt Trigger: No; Output Drive (IOL/IOH)(Max)(mA): 8/-8; tpd @ Nom Voltage(Max)(ns): 6.5; Logic: True; Gate Type: NAND; DatasheetVersion: SCLS313N; PackageReference: DRL0005A; Supplier 1: Mouser; Supplier Part Number 1: 595-SN74AHC1G00DRLR; Supplier 2: Digi-Key; Supplier Part Number 2: 296-19780-2-ND; Supplier 3: Digi-Key; Supplier Part Number 3: 296-19780-1-ND; Supplier 4: Digi-Key; Supplier Part Number 4: 296-19780-6-ND; Input Type: CMOS; Operating Temperature Range(C): -40 to 125; Sub-Family: NAND Gate; 3-State Output: No; ComponentLink1Description: Manufacturer URL; ComponentLink1URL: http://www.ti.com/; ComponentLink2Description: Datasheet; ComponentLink2URL: http://www.ti.com/lit/ds/symlink/sn74ahc1g00.pdf
footprint DRL0005A_N (SOT23, 5-Leads, Body 1.7x1.3mm, Pitch 0.5mm, IPC Medium Density)
footprint DRL0005A_M (SOT23, 5-Leads, Body 1.7x1.3mm, Pitch 0.5mm, IPC Low Density)
footprint DRL0005A_L (SOT23, 5-Leads, Body 1.7x1.3mm, Pitch 0.5mm, IPC High Density)
part A pins: 1 A (in) "Input A", 2 B (in) "Input B", 4 Y (out) "Output Y"
part B pins: 3 GND (power) "Ground Pin", 5 VCC (power) "Power Pin"

## SN74AHC1G00QDCKRQ1
designator U?
Automotive Catalog Single Two-Input Positive-NAND Gate, DCK0005A, LARGE T&R; Generic Part Number: SN74AHC1G00-Q1; Manufacturer: Texas Instruments; PartNumber: SN74AHC1G00QDCKRQ1; VCC(Min)(V): 2; VCC(Max)(V): 5.5; Output Type: CMOS; ICC @ Nom Voltage(Max)(mA): 0.01; Bits(#): 1; F @ Nom Voltage(Max)(Mhz): 75; Technology Family: AHC; Voltage(Nom)(V): 3.3,5; Schmitt Trigger: No; Output Drive (IOL/IOH)(Max)(mA): 50/-50; tpd @ Nom Voltage(Max)(ns): 11.4,7.5; Logic: True; Gate Type: NAND; DatasheetVersion: SLOS424B; PackageReference: DCK0005A; Supplier 1: Mouser; Supplier Part Number 1: 595-SN74AHC1G00QDCQ1; Supplier 2: Digi-Key; Supplier Part Number 2: 296-23670-2-ND; Supplier 3: Digi-Key; Supplier Part Number 3: 296-23670-1-ND; Supplier 4: Digi-Key; Supplier Part Number 4: 296-23670-6-ND; Input Type: CMOS; Operating Temperature Range(C): -40 to 125; Rating: Automotive; Sub-Family: NAND Gate; 3-State Output: No; ComponentLink1Description: Manufacturer URL; ComponentLink1URL: http://www.ti.com/; ComponentLink2Description: Datasheet; ComponentLink2URL: http://www.ti.com/lit/ds/symlink/sn74ahc1g00-q1.pdf
footprint DCK0005A_N (SOT23, 5-Leads, Body 2.15x1.4mm, Pitch 0.65mm, IPC Medium Density)
footprint DCK0005A_M (SOT23, 5-Leads, Body 2.15x1.4mm, Pitch 0.65mm, IPC Low Density)
footprint DCK0005A_L (SOT23, 5-Leads, Body 2.15x1.4mm, Pitch 0.65mm, IPC High Density)
part A pins: 1 A (in) "Input A", 2 B (in) "Input B", 4 Y (out) "Output Y"
part B pins: 3 GND (power) "Ground Pin", 5 VCC (power) "Power Pin"

## SN74AHC1G02DBVR
designator U?
Single 2-Input Positive-NOR Gate, DBV0005A, LARGE T&R; Generic Part Number: SN74AHC1G02; Manufacturer: Texas Instruments; PartNumber: SN74AHC1G02DBVR; VCC(Min)(V): 2; VCC(Max)(V): 5.5; Output Type: CMOS; ICC @ Nom Voltage(Max)(mA): 0.01; Bits(#): 1; F @ Nom Voltage(Max)(Mhz): 75; Rating: Catalog; Technology Family: AHC; Voltage(Nom)(V): 3.3,5; Schmitt Trigger: No; Output Drive (IOL/IOH)(Max)(mA): 50/-50; tpd @ Nom Voltage(Max)(ns): 11.4,7.5; Logic: True; Gate Type: NOR; Sub-Family: NAND Gate; DatasheetVersion: SCLS342M; PackageReference: DBV0005A; Supplier 1: Mouser; Supplier Part Number 1: 595-SN74AHC1G02DBVR; Supplier 2: Digi-Key; Supplier Part Number 2: 296-1088-2-ND; Supplier 3: Digi-Key; Supplier Part Number 3: 296-1088-1-ND; Supplier 4: Digi-Key; Supplier Part Number 4: 296-1088-6-ND; Input Type: CMOS; Operating Temperature Range(C): -40 to 125,-40 to 85; 3-State Output: No; ComponentLink1Description: Manufacturer URL; ComponentLink1URL: http://www.ti.com/; ComponentLink2Description: Datasheet; ComponentLink2URL: http://www.ti.com/lit/ds/symlink/sn74ahc1g02.pdf
footprint DBV0005A_N (SOT23, 5-Leads, Body 3.05x1.75mm, Pitch 0.95mm, IPC Medium Density)
footprint DBV0005A_M (SOT23, 5-Leads, Body 3.05x1.75mm, Pitch 0.95mm, IPC Low Density)
footprint DBV0005A_L (SOT23, 5-Leads, Body 3.05x1.75mm, Pitch 0.95mm, IPC High Density)
part A pins: 1 A (in) "Input A", 2 B (in) "Input B", 4 Y (out) "Output Y"
part B pins: 3 GND (power) "Ground Pin", 5 VCC (power) "Power Pin"

## SN74AHC1G02DBVT
designator U?
Single 2-Input Positive-NOR Gate, DBV0005A, SMALL T&R; Generic Part Number: SN74AHC1G02; Manufacturer: Texas Instruments; PartNumber: SN74AHC1G02DBVT; VCC(Min)(V): 2; VCC(Max)(V): 5.5; Output Type: CMOS; ICC @ Nom Voltage(Max)(mA): 0.01; Bits(#): 1; F @ Nom Voltage(Max)(Mhz): 75; Rating: Catalog; Technology Family: AHC; Voltage(Nom)(V): 3.3,5; Schmitt Trigger: No; Output Drive (IOL/IOH)(Max)(mA): 50/-50; tpd @ Nom Voltage(Max)(ns): 11.4,7.5; Logic: True; Gate Type: NOR; Sub-Family: NAND Gate; DatasheetVersion: SCLS342M; PackageReference: DBV0005A; Supplier 1: Mouser; Supplier Part Number 1: 595-SN74AHC1G02DBVT; Supplier 2: Digi-Key; Supplier Part Number 2: SN74AHC1G02DBVT-ND; Input Type: CMOS; Operating Temperature Range(C): -40 to 125,-40 to 85; 3-State Output: No; ComponentLink1Description: Manufacturer URL; ComponentLink1URL: http://www.ti.com/; ComponentLink2Description: Datasheet; ComponentLink2URL: http://www.ti.com/lit/ds/symlink/sn74ahc1g02.pdf
footprint DBV0005A_N (SOT23, 5-Leads, Body 3.05x1.75mm, Pitch 0.95mm, IPC Medium Density)
footprint DBV0005A_M (SOT23, 5-Leads, Body 3.05x1.75mm, Pitch 0.95mm, IPC Low Density)
footprint DBV0005A_L (SOT23, 5-Leads, Body 3.05x1.75mm, Pitch 0.95mm, IPC High Density)
part A pins: 1 A (in) "Input A", 2 B (in) "Input B", 4 Y (out) "Output Y"
part B pins: 3 GND (power) "Ground Pin", 5 VCC (power) "Power Pin"

## SN74AHC1G02DCKR
designator U?
Single 2-Input Positive-NOR Gate, DCK0005A, LARGE T&R; Generic Part Number: SN74AHC1G02; Manufacturer: Texas Instruments; PartNumber: SN74AHC1G02DCKR; VCC(Min)(V): 2; VCC(Max)(V): 5.5; Output Type: CMOS; ICC @ Nom Voltage(Max)(mA): 0.01; Bits(#): 1; F @ Nom Voltage(Max)(Mhz): 75; Rating: Catalog; Technology Family: AHC; Voltage(Nom)(V): 3.3,5; Schmitt Trigger: No; Output Drive (IOL/IOH)(Max)(mA): 50/-50; tpd @ Nom Voltage(Max)(ns): 11.4,7.5; Logic: True; Gate Type: NOR; Sub-Family: NAND Gate; DatasheetVersion: SCLS342M; PackageReference: DCK0005A; Supplier 1: Mouser; Supplier Part Number 1: 595-SN74AHC1G02DCKR; Supplier 2: Digi-Key; Supplier Part Number 2: 296-8742-2-ND; Supplier 3: Digi-Key; Supplier Part Number 3: 296-8742-1-ND; Supplier 4: Digi-Key; Supplier Part Number 4: 296-8742-6-ND; Input Type: CMOS; Operating Temperature Range(C): -40 to 125,-40 to 85; 3-State Output: No; ComponentLink1Description: Manufacturer URL; ComponentLink1URL: http://www.ti.com/; ComponentLink2Description: Datasheet; ComponentLink2URL: http://www.ti.com/lit/ds/symlink/sn74ahc1g02.pdf
footprint DCK0005A_N (SOT23, 5-Leads, Body 2.15x1.4mm, Pitch 0.65mm, IPC Medium Density)
footprint DCK0005A_M (SOT23, 5-Leads, Body 2.15x1.4mm, Pitch 0.65mm, IPC Low Density)
footprint DCK0005A_L (SOT23, 5-Leads, Body 2.15x1.4mm, Pitch 0.65mm, IPC High Density)
part A pins: 1 A (in) "Input A", 2 B (in) "Input B", 4 Y (out) "Output Y"
part B pins: 3 GND (power) "Ground Pin", 5 VCC (power) "Power Pin"

## SN74AHC1G02DCKT
designator U?
Single 2-Input Positive-NOR Gate, DCK0005A, SMALL T&R; Generic Part Number: SN74AHC1G02; Manufacturer: Texas Instruments; PartNumber: SN74AHC1G02DCKT; VCC(Min)(V): 2; VCC(Max)(V): 5.5; Output Type: CMOS; ICC @ Nom Voltage(Max)(mA): 0.01; Bits(#): 1; F @ Nom Voltage(Max)(Mhz): 75; Rating: Catalog; Technology Family: AHC; Voltage(Nom)(V): 3.3,5; Schmitt Trigger: No; Output Drive (IOL/IOH)(Max)(mA): 50/-50; tpd @ Nom Voltage(Max)(ns): 11.4,7.5; Logic: True; Gate Type: NOR; Sub-Family: NAND Gate; DatasheetVersion: SCLS342M; PackageReference: DCK0005A; Supplier 1: Mouser; Supplier Part Number 1: 595-SN74AHC1G02DCKT; Supplier 2: Digi-Key; Supplier Part Number 2: SN74AHC1G02DCKT-ND; Input Type: CMOS; Operating Temperature Range(C): -40 to 125,-40 to 85; 3-State Output: No; ComponentLink1Description: Manufacturer URL; ComponentLink1URL: http://www.ti.com/; ComponentLink2Description: Datasheet; ComponentLink2URL: http://www.ti.com/lit/ds/symlink/sn74ahc1g02.pdf
footprint DCK0005A_N (SOT23, 5-Leads, Body 2.15x1.4mm, Pitch 0.65mm, IPC Medium Density)
footprint DCK0005A_M (SOT23, 5-Leads, Body 2.15x1.4mm, Pitch 0.65mm, IPC Low Density)
footprint DCK0005A_L (SOT23, 5-Leads, Body 2.15x1.4mm, Pitch 0.65mm, IPC High Density)
part A pins: 1 A (in) "Input A", 2 B (in) "Input B", 4 Y (out) "Output Y"
part B pins: 3 GND (power) "Ground Pin", 5 VCC (power) "Power Pin"

## SN74AHC1G02DRLR
designator U?
Single 2-Input Positive-NOR Gate, DRL0005A, LARGE T&R; Generic Part Number: SN74AHC1G02; Manufacturer: Texas Instruments; PartNumber: SN74AHC1G02DRLR; VCC(Min)(V): 2; VCC(Max)(V): 5.5; Output Type: CMOS; ICC @ Nom Voltage(Max)(mA): 0.01; Bits(#): 1; F @ Nom Voltage(Max)(Mhz): 75; Rating: Catalog; Technology Family: AHC; Voltage(Nom)(V): 3.3,5; Schmitt Trigger: No; Output Drive (IOL/IOH)(Max)(mA): 50/-50; tpd @ Nom Voltage(Max)(ns): 11.4,7.5; Logic: True; Gate Type: NOR; Sub-Family: NAND Gate; DatasheetVersion: SCLS342M; PackageReference: DRL0005A; Supplier 1: Mouser; Supplier Part Number 1: 595-SN74AHC1G02DRLR; Supplier 2: Digi-Key; Supplier Part Number 2: 296-23229-2-ND; Supplier 3: Digi-Key; Supplier Part Number 3: 296-23229-1-ND; Supplier 4: Digi-Key; Supplier Part Number 4: 296-23229-6-ND; Input Type: CMOS; Operating Temperature Range(C): -40 to 125,-40 to 85; 3-State Output: No; ComponentLink1Description: Manufacturer URL; ComponentLink1URL: http://www.ti.com/; ComponentLink2Description: Datasheet; ComponentLink2URL: http://www.ti.com/lit/ds/symlink/sn74ahc1g02.pdf
footprint DRL0005A_N (SOT23, 5-Leads, Body 1.7x1.3mm, Pitch 0.5mm, IPC Medium Density)
footprint DRL0005A_M (SOT23, 5-Leads, Body 1.7x1.3mm, Pitch 0.5mm, IPC Low Density)
footprint DRL0005A_L (SOT23, 5-Leads, Body 1.7x1.3mm, Pitch 0.5mm, IPC High Density)
part A pins: 1 A (in) "Input A", 2 B (in) "Input B", 4 Y (out) "Output Y"
part B pins: 3 GND (power) "Ground Pin", 5 VCC (power) "Power Pin"

## SN74AHC1G02MDCKREP
designator U?
Enhanced Product Single 2 Input Positive Nor Gate, DCK0005A, LARGE T&R; Generic Part Number: SN74AHC1G02-EP; Manufacturer: Texas Instruments; PartNumber: SN74AHC1G02MDCKREP; VCC(Min)(V): 2; VCC(Max)(V): 5.5; Output Type: CMOS; ICC @ Nom Voltage(Max)(mA): 0.01; Bits(#): 1; F @ Nom Voltage(Max)(Mhz): 75; Rating: HiRel Enhanced Product; Technology Family: AHC; Voltage(Nom)(V): 3.3,5; Schmitt Trigger: No; Output Drive (IOL/IOH)(Max)(mA): 50/-50; tpd @ Nom Voltage(Max)(ns): 11.4,7.5; Logic: True; Sub-Family: NAND Gate; DatasheetVersion: SCLS708; PackageReference: DCK0005A; Supplier 1: Mouser; Supplier Part Number 1: 595-74AHC1G02MDCKREP; Supplier 2: Digi-Key; Supplier Part Number 2: 296-23230-2-ND; Supplier 3: Digi-Key; Supplier Part Number 3: 296-23230-1-ND; Supplier 4: Digi-Key; Supplier Part Number 4: 296-23230-6-ND; Input Type: CMOS; Operating Temperature Range(C): -55 to 125; Gate Type: NOR; 3-State Output: No; ComponentLink1Description: Manufacturer URL; ComponentLink1URL: http://www.ti.com/; ComponentLink2Description: Datasheet; ComponentLink2URL: http://www.ti.com/lit/ds/symlink/sn74ahc1g02-ep.pdf
footprint DCK0005A_N (SOT23, 5-Leads, Body 2.15x1.4mm, Pitch 0.65mm, IPC Medium Density)
footprint DCK0005A_M (SOT23, 5-Leads, Body 2.15x1.4mm, Pitch 0.65mm, IPC Low Density)
footprint DCK0005A_L (SOT23, 5-Leads, Body 2.15x1.4mm, Pitch 0.65mm, IPC High Density)
part A pins: 1 A (in) "Input A", 2 B (in) "Input B", 4 Y (out) "Output Y"
part B pins: 3 GND (power) "Ground Pin", 5 VCC (power) "Power Pin"

## SN74AHC1G04DBVR
designator U?
Single Inverter Gate, DBV0005A, LARGE T&R; Generic Part Number: SN74AHC1G04; Manufacturer: Texas Instruments; PartNumber: SN74AHC1G04DBVR; VCC(Min)(V): 2; VCC(Max)(V): 5.5; Output Type: CMOS; ICC @ Nom Voltage(Max)(mA): 0.01; Bits(#): 1; F @ Nom Voltage(Max)(Mhz): 75; Rating: Catalog; Technology Family: AHC; Voltage(Nom)(V): 3.3,5; Schmitt Trigger: No; Output Drive (IOL/IOH)(Max)(mA): 50/-50; tpd @ Nom Voltage(Max)(ns): 10.6,7.5; Logic: Inverting; Sub-Family: Inverting Buffer/Driver; DatasheetVersion: SCLS318S; PackageReference: DBV0005A; Supplier 1: Mouser; Supplier Part Number 1: 595-SN74AHC1G04DBVR; Supplier 2: Digi-Key; Supplier Part Number 2: 296-1089-2-ND; Supplier 3: Digi-Key; Supplier Part Number 3: 296-1089-1-ND; Supplier 4: Digi-Key; Supplier Part Number 4: 296-1089-6-ND; Input Type: CMOS; Operating Temperature Range(C): -40 to 125; 3-State Output: No; ComponentLink1Description: Manufacturer URL; ComponentLink1URL: http://www.ti.com/; ComponentLink2Description: Datasheet; ComponentLink2URL: http://www.ti.com/lit/ds/symlink/sn74ahc1g04.pdf
footprint DBV0005A_N (SOT23, 5-Leads, Body 3.05x1.75mm, Pitch 0.95mm, IPC Medium Density)
footprint DBV0005A_M (SOT23, 5-Leads, Body 3.05x1.75mm, Pitch 0.95mm, IPC Low Density)
footprint DBV0005A_L (SOT23, 5-Leads, Body 3.05x1.75mm, Pitch 0.95mm, IPC High Density)
part A pins: 2 A (in) "Input A", 4 Y (out) "Output Y"
part B pins: 1 NC "Ground", 3 GND (power) "Ground Pin", 5 VCC (power) "Power Pin"

## SN74AHC1G04DBVT
designator U?
Single Inverter Gate, DBV0005A, SMALL T&R; Generic Part Number: SN74AHC1G04; Manufacturer: Texas Instruments; PartNumber: SN74AHC1G04DBVT; VCC(Min)(V): 2; VCC(Max)(V): 5.5; Output Type: CMOS; ICC @ Nom Voltage(Max)(mA): 0.01; Bits(#): 1; F @ Nom Voltage(Max)(Mhz): 75; Rating: Catalog; Technology Family: AHC; Voltage(Nom)(V): 3.3,5; Schmitt Trigger: No; Output Drive (IOL/IOH)(Max)(mA): 50/-50; tpd @ Nom Voltage(Max)(ns): 10.6,7.5; Logic: Inverting; Sub-Family: Inverting Buffer/Driver; DatasheetVersion: SCLS318S; PackageReference: DBV0005A; Supplier 1: Mouser; Supplier Part Number 1: 595-SN74AHC1G04DBVT; Supplier 2: Digi-Key; Supplier Part Number 2: 296-26397-2-ND; Supplier 3: Digi-Key; Supplier Part Number 3: 296-26397-1-ND; Supplier 4: Digi-Key; Supplier Part Number 4: 296-26397-6-ND; Input Type: CMOS; Operating Temperature Range(C): -40 to 125; 3-State Output: No; ComponentLink1Description: Manufacturer URL; ComponentLink1URL: http://www.ti.com/; ComponentLink2Description: Datasheet; ComponentLink2URL: http://www.ti.com/lit/ds/symlink/sn74ahc1g04.pdf
footprint DBV0005A_N (SOT23, 5-Leads, Body 3.05x1.75mm, Pitch 0.95mm, IPC Medium Density)
footprint DBV0005A_M (SOT23, 5-Leads, Body 3.05x1.75mm, Pitch 0.95mm, IPC Low Density)
footprint DBV0005A_L (SOT23, 5-Leads, Body 3.05x1.75mm, Pitch 0.95mm, IPC High Density)
part A pins: 2 A (in) "Input A", 4 Y (out) "Output Y"
part B pins: 1 NC "Ground", 3 GND (power) "Ground Pin", 5 VCC (power) "Power Pin"

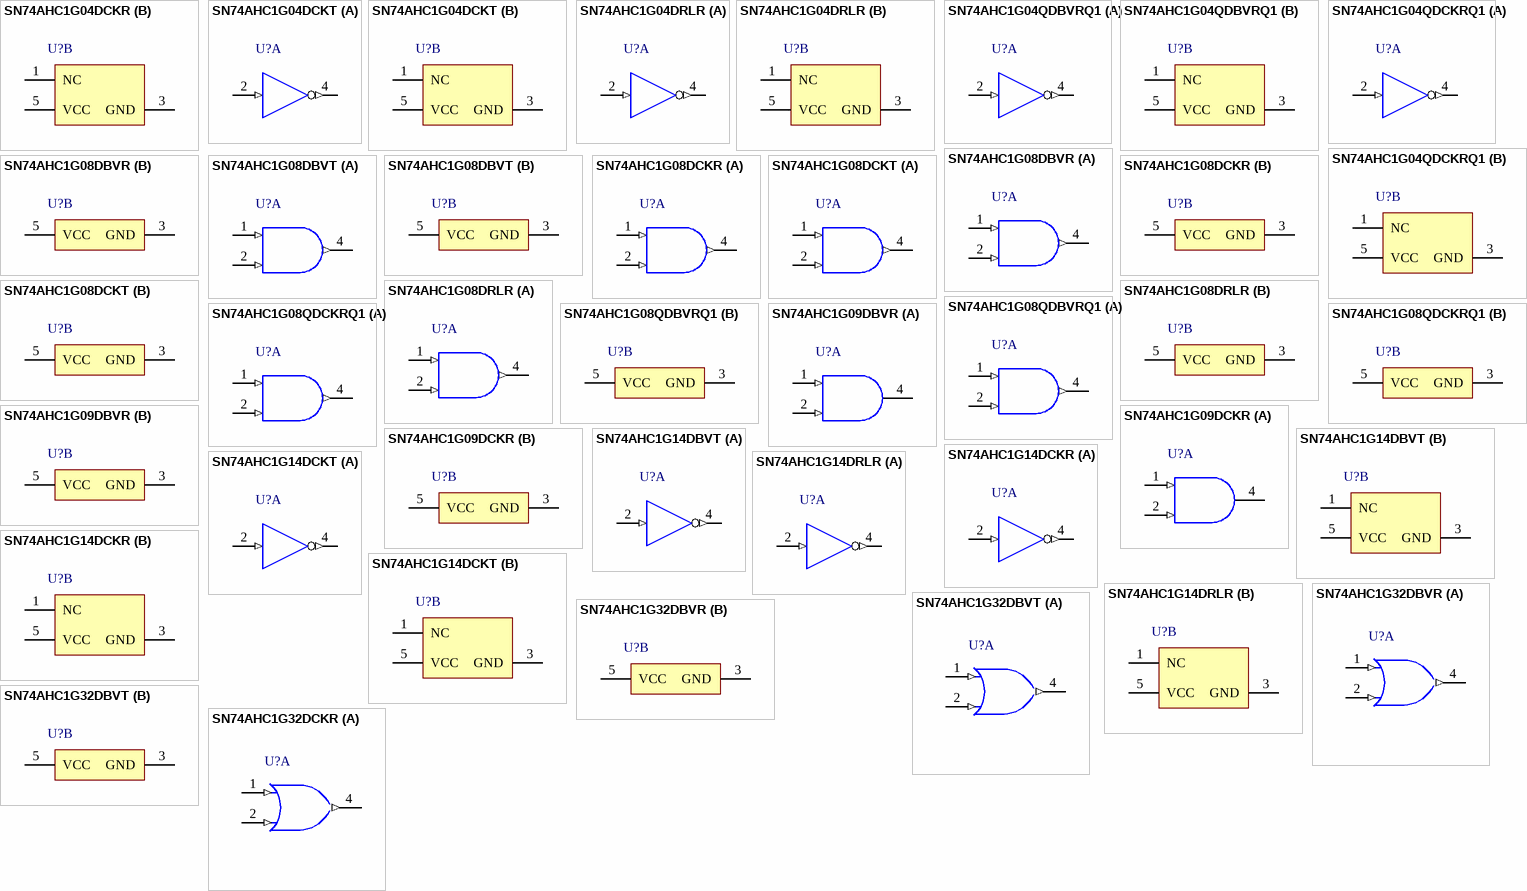
[diagram p3: symbols SN74AHC1G04DCKR to SN74AHC1G32DCKR]

## SN74AHC1G04DCKR
designator U?
Single Inverter Gate, DCK0005A, LARGE T&R; Generic Part Number: SN74AHC1G04; Manufacturer: Texas Instruments; PartNumber: SN74AHC1G04DCKR; VCC(Min)(V): 2; VCC(Max)(V): 5.5; Output Type: CMOS; ICC @ Nom Voltage(Max)(mA): 0.01; Bits(#): 1; F @ Nom Voltage(Max)(Mhz): 75; Rating: Catalog; Technology Family: AHC; Voltage(Nom)(V): 3.3,5; Schmitt Trigger: No; Output Drive (IOL/IOH)(Max)(mA): 50/-50; tpd @ Nom Voltage(Max)(ns): 10.6,7.5; Logic: Inverting; Sub-Family: Inverting Buffer/Driver; DatasheetVersion: SCLS318S; PackageReference: DCK0005A; Supplier 1: Mouser; Supplier Part Number 1: 595-SN74AHC1G04DCKR; Supplier 2: Digi-Key; Supplier Part Number 2: 296-1090-2-ND; Supplier 3: Digi-Key; Supplier Part Number 3: 296-1090-1-ND; Supplier 4: Digi-Key; Supplier Part Number 4: 296-1090-6-ND; Input Type: CMOS; Operating Temperature Range(C): -40 to 125; 3-State Output: No; ComponentLink1Description: Manufacturer URL; ComponentLink1URL: http://www.ti.com/; ComponentLink2Description: Datasheet; ComponentLink2URL: http://www.ti.com/lit/ds/symlink/sn74ahc1g04.pdf
footprint DCK0005A_N (SOT23, 5-Leads, Body 2.15x1.4mm, Pitch 0.65mm, IPC Medium Density)
footprint DCK0005A_M (SOT23, 5-Leads, Body 2.15x1.4mm, Pitch 0.65mm, IPC Low Density)
footprint DCK0005A_L (SOT23, 5-Leads, Body 2.15x1.4mm, Pitch 0.65mm, IPC High Density)
part A pins: 2 A (in) "Input A", 4 Y (out) "Output Y"
part B pins: 1 NC "Ground", 3 GND (power) "Ground Pin", 5 VCC (power) "Power Pin"

## SN74AHC1G04DCKT
designator U?
Single Inverter Gate, DCK0005A, SMALL T&R; Generic Part Number: SN74AHC1G04; Manufacturer: Texas Instruments; PartNumber: SN74AHC1G04DCKT; VCC(Min)(V): 2; VCC(Max)(V): 5.5; Output Type: CMOS; ICC @ Nom Voltage(Max)(mA): 0.01; Bits(#): 1; F @ Nom Voltage(Max)(Mhz): 75; Rating: Catalog; Technology Family: AHC; Voltage(Nom)(V): 3.3,5; Schmitt Trigger: No; Output Drive (IOL/IOH)(Max)(mA): 50/-50; tpd @ Nom Voltage(Max)(ns): 10.6,7.5; Logic: Inverting; Sub-Family: Inverting Buffer/Driver; DatasheetVersion: SCLS318S; PackageReference: DCK0005A; Supplier 1: Mouser; Supplier Part Number 1: 595-SN74AHC1G04DCKT; Supplier 2: Digi-Key; Supplier Part Number 2: 296-32227-2-ND; Supplier 3: Digi-Key; Supplier Part Number 3: 296-32227-1-ND; Supplier 4: Digi-Key; Supplier Part Number 4: 296-32227-6-ND; Input Type: CMOS; Operating Temperature Range(C): -40 to 125; 3-State Output: No; ComponentLink1Description: Manufacturer URL; ComponentLink1URL: http://www.ti.com/; ComponentLink2Description: Datasheet; ComponentLink2URL: http://www.ti.com/lit/ds/symlink/sn74ahc1g04.pdf
footprint DCK0005A_N (SOT23, 5-Leads, Body 2.15x1.4mm, Pitch 0.65mm, IPC Medium Density)
footprint DCK0005A_M (SOT23, 5-Leads, Body 2.15x1.4mm, Pitch 0.65mm, IPC Low Density)
footprint DCK0005A_L (SOT23, 5-Leads, Body 2.15x1.4mm, Pitch 0.65mm, IPC High Density)
part A pins: 2 A (in) "Input A", 4 Y (out) "Output Y"
part B pins: 1 NC "Ground", 3 GND (power) "Ground Pin", 5 VCC (power) "Power Pin"

## SN74AHC1G04DRLR
designator U?
Single Inverter Gate, DRL0005A, LARGE T&R; Generic Part Number: SN74AHC1G04; Manufacturer: Texas Instruments; PartNumber: SN74AHC1G04DRLR; VCC(Min)(V): 2; VCC(Max)(V): 5.5; Output Type: CMOS; ICC @ Nom Voltage(Max)(mA): 0.01; Bits(#): 1; F @ Nom Voltage(Max)(Mhz): 75; Rating: Catalog; Technology Family: AHC; Voltage(Nom)(V): 3.3,5; Schmitt Trigger: No; Output Drive (IOL/IOH)(Max)(mA): 50/-50; tpd @ Nom Voltage(Max)(ns): 10.6,7.5; Logic: Inverting; Sub-Family: Inverting Buffer/Driver; DatasheetVersion: SCLS318S; PackageReference: DRL0005A; Supplier 1: Mouser; Supplier Part Number 1: 595-SN74AHC1G04DRLR; Supplier 2: Digi-Key; Supplier Part Number 2: 296-19375-2-ND; Supplier 3: Digi-Key; Supplier Part Number 3: 296-19375-1-ND; Supplier 4: Digi-Key; Supplier Part Number 4: 296-19375-6-ND; Input Type: CMOS; Operating Temperature Range(C): -40 to 125; 3-State Output: No; ComponentLink1Description: Manufacturer URL; ComponentLink1URL: http://www.ti.com/; ComponentLink2Description: Datasheet; ComponentLink2URL: http://www.ti.com/lit/ds/symlink/sn74ahc1g04.pdf
footprint DRL0005A_N (SOT23, 5-Leads, Body 1.7x1.3mm, Pitch 0.5mm, IPC Medium Density)
footprint DRL0005A_M (SOT23, 5-Leads, Body 1.7x1.3mm, Pitch 0.5mm, IPC Low Density)
footprint DRL0005A_L (SOT23, 5-Leads, Body 1.7x1.3mm, Pitch 0.5mm, IPC High Density)
part A pins: 2 A (in) "Input A", 4 Y (out) "Output Y"
part B pins: 1 NC "Ground", 3 GND (power) "Ground Pin", 5 VCC (power) "Power Pin"

## SN74AHC1G04QDBVRQ1
designator U?
Automotive Catalog Single Inverter Gate, DBV0005A, LARGE T&R; Generic Part Number: SN74AHC1G04-Q1; Manufacturer: Texas Instruments; PartNumber: SN74AHC1G04QDBVRQ1; VCC(Min)(V): 2; VCC(Max)(V): 5.5; Output Type: CMOS; ICC @ Nom Voltage(Max)(mA): 0.01; Bits(#): 1; F @ Nom Voltage(Max)(Mhz): 75; Technology Family: AHC; Voltage(Nom)(V): 3.3,5; Schmitt Trigger: No; Output Drive (IOL/IOH)(Max)(mA): 50/-50; tpd @ Nom Voltage(Max)(ns): 10.6,7.5; Logic: Inverting; Sub-Family: Inverting Buffer/Driver; DatasheetVersion: SCLS540A; PackageReference: DBV0005A; Supplier 1: Mouser; Supplier Part Number 1: 595-SN74AHC1G04QDBQ1; Supplier 2: Digi-Key; Supplier Part Number 2: 296-23932-2-ND; Supplier 3: Digi-Key; Supplier Part Number 3: 296-23932-1-ND; Supplier 4: Digi-Key; Supplier Part Number 4: 296-23932-6-ND; Input Type: CMOS; Operating Temperature Range(C): -40 to 125; Rating: Automotive; 3-State Output: No; ComponentLink1Description: Manufacturer URL; ComponentLink1URL: http://www.ti.com/; ComponentLink2Description: Datasheet; ComponentLink2URL: http://www.ti.com/lit/ds/symlink/sn74ahc1g04-q1.pdf
footprint DBV0005A_N (SOT23, 5-Leads, Body 3.05x1.75mm, Pitch 0.95mm, IPC Medium Density)
footprint DBV0005A_M (SOT23, 5-Leads, Body 3.05x1.75mm, Pitch 0.95mm, IPC Low Density)
footprint DBV0005A_L (SOT23, 5-Leads, Body 3.05x1.75mm, Pitch 0.95mm, IPC High Density)
part A pins: 2 A (in) "Input A", 4 Y (out) "Output Y"
part B pins: 1 NC "Ground", 3 GND (power) "Ground Pin", 5 VCC (power) "Power Pin"